# EAGLE library part LM2904M (library op-amp)
Low Power Dual Operational Amplifier
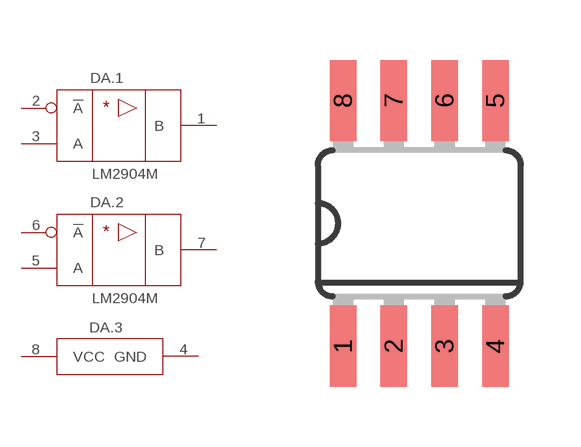
[diagram p0: symbol with the pads of SO08; footprint SO08]

Designator prefix DA; gates .1=OP_AMP .2=OP_AMP .3=PWRN

## LM2904M  [SO08]
1  .1:B  out
2  .1:!A  in
3  .1:A  in
4  .3:GND  pwr
5  .2:A  in
6  .2:!A  in
7  .2:B  out
8  .3:VCC  pwr

## Footprint SO08 (pad centres in mm)
Small Outline package 150 mil
smd 0.66 x 2.032: 1 -1.905,-3.073; 2 -0.635,-3.073; 3 0.635,-3.073; 4 1.905,-3.073; 5 1.905,3.073; 6 0.635,3.073; 7 -0.635,3.073; 8 -1.905,3.073